# Altium schematic symbol library Schematic_Touchpads.SchLib: 5 symbols
Pins are listed as number, name and electrical type; pins without a type are passive.

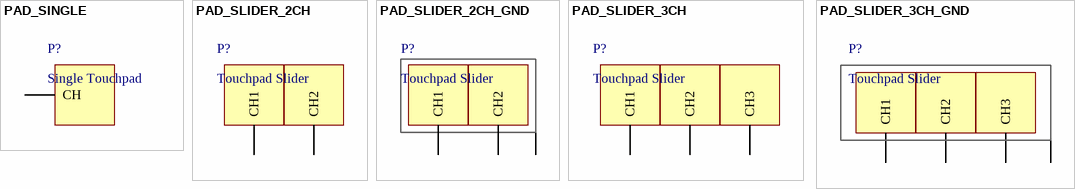
[diagram p0: symbols PAD_SINGLE to PAD_SLIDER_3CH_GND]

## PAD_SINGLE
designator P?, comment Single Touchpad
General Single Touchpad
pins: 1 CH

## PAD_SLIDER_2CH
designator P?, comment Touchpad Slider
General Slider Touchpad
pins: 1 CH1, 2 CH2

## PAD_SLIDER_2CH_GND
designator P?, comment Touchpad Slider
General Slider Touchpad
pins: 1 CH1, 2 CH2, 3 GND

## PAD_SLIDER_3CH
designator P?, comment Touchpad Slider
General Slider Touchpad
pins: 1 CH1, 2 CH2, 3 CH3

## PAD_SLIDER_3CH_GND
designator P?, comment Touchpad Slider
General Slider Touchpad
pins: 1 CH1, 2 CH2, 3 CH3, 4 GND